# Altium integrated library Linear Technology PMIC-Switching Reg LTC1174-LTC3901.IntLib: 2647 symbols (part 34 of 310)
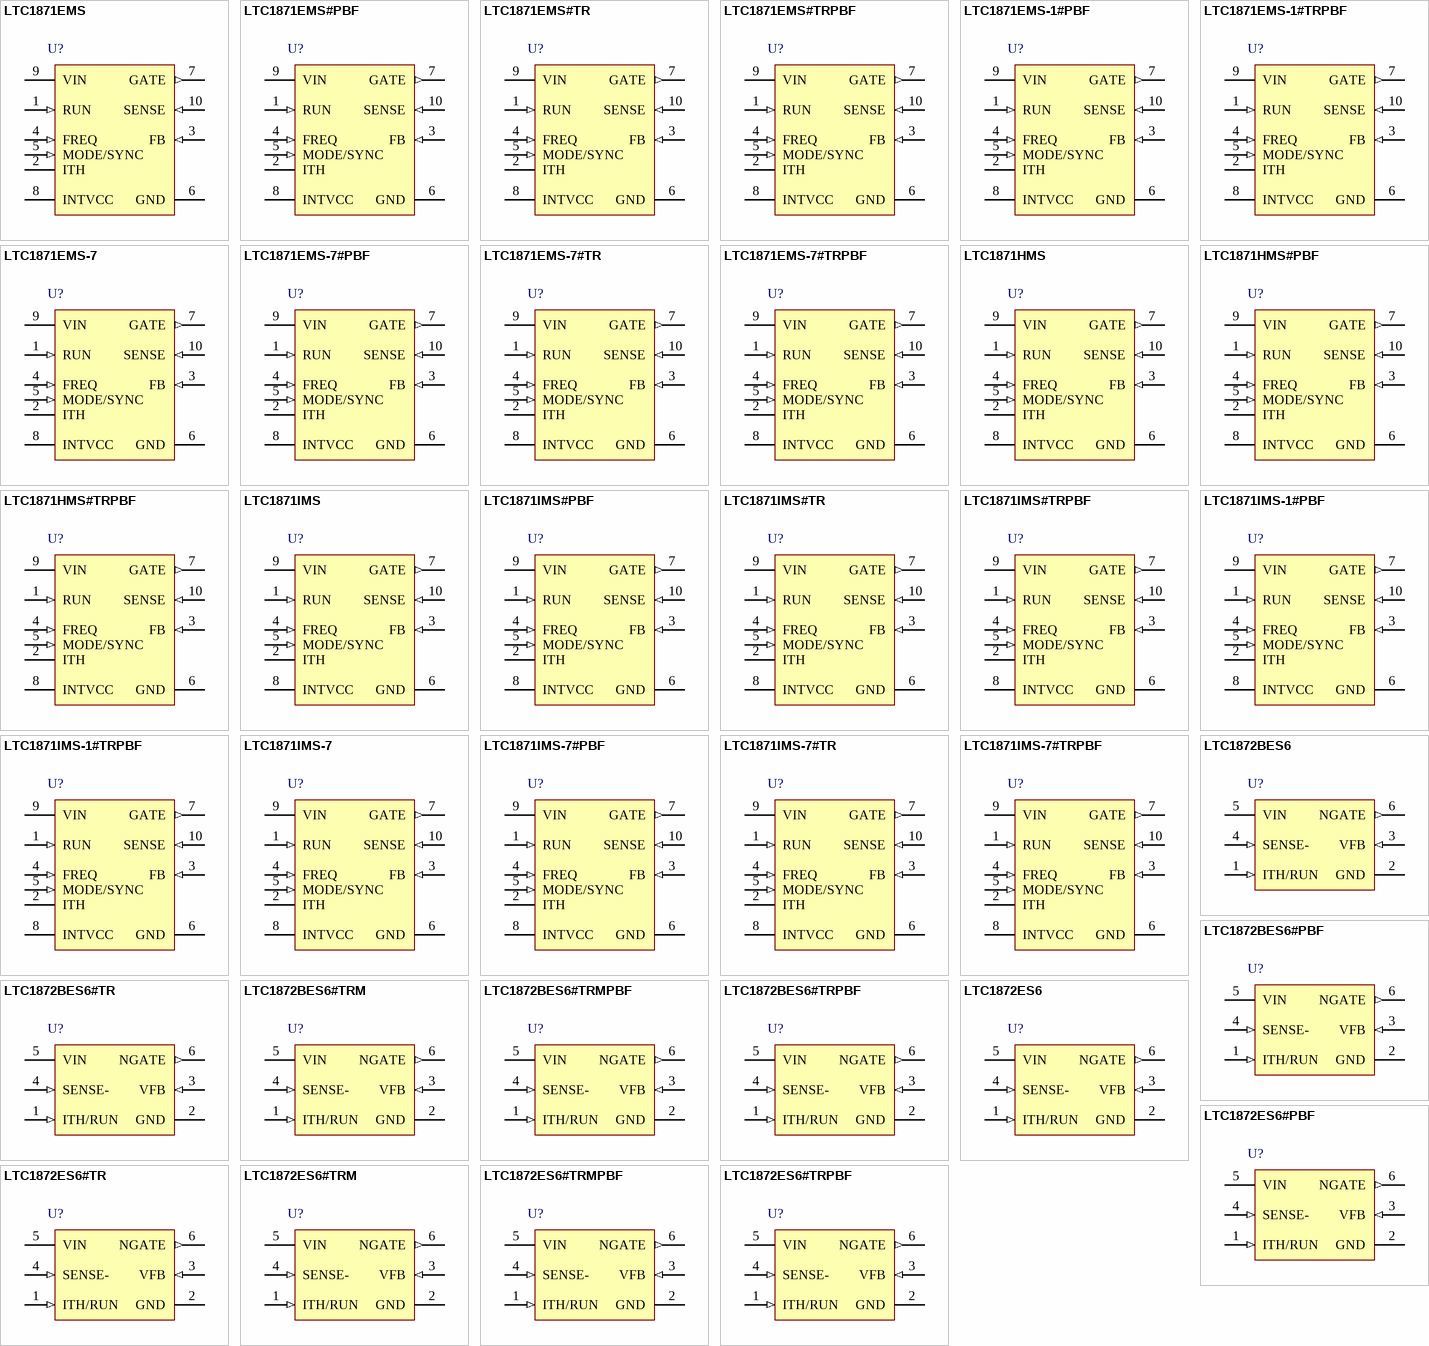
[diagram p135: symbols LTC1871EMS to LTC1872ES6#TRPBF]

## LTC1871HMS
designator U?
Wide Input Range, No Rsense Current Mode Boost, Flyback and SEPIC Controller, 10-pin SOP (MS-10), -40 to 150 degC; Manufacturer: Linear Technology; PartNumber: LTC1871HMS; Number of Outputs: 1; PackageReference: MS-10; PackageDescription: 10-Pin Plastic MSOP, Body 3 x 3 mm, Pitch 0.5 mm; RoHS: FALSE
footprint LT-MS-10_N (SOP, 10-Leads, Body 3.1x3.1mm, Pitch 0.5mm, IPC Medium Density)
footprint LT-MS-10_L (SOP, 10-Leads, Body 3.1x3.1mm, Pitch 0.5mm, IPC High Density)
footprint LT-MS-10_M (SOP, 10-Leads, Body 3.1x3.1mm, Pitch 0.5mm, IPC Low Density)
pins: 1 RUN (in) "The RUN pin provides the user with an accurate means for sensing the input voltage and programming the start-up threshold for the converter. The falling RUN pin threshold is nominally 1.248V and the comparator has 100mV of (See Datasheet)", 2 ITH "Error Amplifier Compensation Pin. The current comparator input threshold increases with this control voltage. Nominal voltage range for this pin is 0V to 1.40V.", 3 FB (in) "Receives the feedback voltage from the external resistor divider across the output. Nominal voltage for this pin in regulation is 1.230V.", 4 FREQ (in) "A resistor from the FREQ pin to ground programs the operating frequency of the chip. The nominal voltage at the FREQ pin is 0.6V.", 5 MODE/SYNC (in) "This input controls the operating mode of the converter and allows for synchronizing the operating frequency to an external clock. If the MODE/ SYNC pin is connected to ground, Burst Mode operation is enabled. If the (See Datasheet)", 6 GND (power) "Ground Pin.", 7 GATE (out) "Gate Driver Output.", 8 INTVCC (power) "The Internal Regulator Output. The gate driver and control circuits are powered from this voltage. Decouple this pin locally to the IC ground with a minimum of 4.7uF low ESR tantalum or ceramic capacitor.", 9 VIN (power) "Main Supply Pin. Must be closely decoupled to ground.", 10 SENSE (in) "The Current Sense Input for the Control Loop. Connect this pin to a resistor in the source of the power MOSFET. Alternatively, the SENSE pin may be connected to the drain of the power MOSFET, in applications where the (See Datasheet)"

## LTC1871HMS#PBF
designator U?
Wide Input Range, No Rsense Current Mode Boost, Flyback and SEPIC Controller, 10-pin SOP (MS-10), -40 to 150 degC, Pb-Free; Manufacturer: Linear Technology; PartNumber: LTC1871HMS#PBF; Number of Outputs: 1; PackageReference: MS-10; PackageDescription: 10-Pin Plastic MSOP, Body 3 x 3 mm, Pitch 0.5 mm; Supplier 1: Digi-Key; Supplier Part Number 1: LTC1871HMS#PBF-ND; RoHS: TRUE
footprint LT-MS-10_N (SOP, 10-Leads, Body 3.1x3.1mm, Pitch 0.5mm, IPC Medium Density)
footprint LT-MS-10_L (SOP, 10-Leads, Body 3.1x3.1mm, Pitch 0.5mm, IPC High Density)
footprint LT-MS-10_M (SOP, 10-Leads, Body 3.1x3.1mm, Pitch 0.5mm, IPC Low Density)
pins: 1 RUN (in) "The RUN pin provides the user with an accurate means for sensing the input voltage and programming the start-up threshold for the converter. The falling RUN pin threshold is nominally 1.248V and the comparator has 100mV of (See Datasheet)", 2 ITH "Error Amplifier Compensation Pin. The current comparator input threshold increases with this control voltage. Nominal voltage range for this pin is 0V to 1.40V.", 3 FB (in) "Receives the feedback voltage from the external resistor divider across the output. Nominal voltage for this pin in regulation is 1.230V.", 4 FREQ (in) "A resistor from the FREQ pin to ground programs the operating frequency of the chip. The nominal voltage at the FREQ pin is 0.6V.", 5 MODE/SYNC (in) "This input controls the operating mode of the converter and allows for synchronizing the operating frequency to an external clock. If the MODE/ SYNC pin is connected to ground, Burst Mode operation is enabled. If the (See Datasheet)", 6 GND (power) "Ground Pin.", 7 GATE (out) "Gate Driver Output.", 8 INTVCC (power) "The Internal Regulator Output. The gate driver and control circuits are powered from this voltage. Decouple this pin locally to the IC ground with a minimum of 4.7uF low ESR tantalum or ceramic capacitor.", 9 VIN (power) "Main Supply Pin. Must be closely decoupled to ground.", 10 SENSE (in) "The Current Sense Input for the Control Loop. Connect this pin to a resistor in the source of the power MOSFET. Alternatively, the SENSE pin may be connected to the drain of the power MOSFET, in applications where the (See Datasheet)"

## LTC1871HMS#TRPBF
designator U?
Wide Input Range, No Rsense Current Mode Boost, Flyback and SEPIC Controller, 10-pin SOP (MS-10), -40 to 150 degC, Pb-Free, Tape and Reel; Manufacturer: Linear Technology; PartNumber: LTC1871HMS#TRPBF; Number of Outputs: 1; PackageReference: MS-10; PackageDescription: 10-Pin Plastic MSOP, Body 3 x 3 mm, Pitch 0.5 mm; Supplier 1: Digi-Key; Supplier Part Number 1: LTC1871HMS#TRPBF-ND; RoHS: TRUE
footprint LT-MS-10_N (SOP, 10-Leads, Body 3.1x3.1mm, Pitch 0.5mm, IPC Medium Density)
footprint LT-MS-10_L (SOP, 10-Leads, Body 3.1x3.1mm, Pitch 0.5mm, IPC High Density)
footprint LT-MS-10_M (SOP, 10-Leads, Body 3.1x3.1mm, Pitch 0.5mm, IPC Low Density)
pins: 1 RUN (in) "The RUN pin provides the user with an accurate means for sensing the input voltage and programming the start-up threshold for the converter. The falling RUN pin threshold is nominally 1.248V and the comparator has 100mV of (See Datasheet)", 2 ITH "Error Amplifier Compensation Pin. The current comparator input threshold increases with this control voltage. Nominal voltage range for this pin is 0V to 1.40V.", 3 FB (in) "Receives the feedback voltage from the external resistor divider across the output. Nominal voltage for this pin in regulation is 1.230V.", 4 FREQ (in) "A resistor from the FREQ pin to ground programs the operating frequency of the chip. The nominal voltage at the FREQ pin is 0.6V.", 5 MODE/SYNC (in) "This input controls the operating mode of the converter and allows for synchronizing the operating frequency to an external clock. If the MODE/ SYNC pin is connected to ground, Burst Mode operation is enabled. If the (See Datasheet)", 6 GND (power) "Ground Pin.", 7 GATE (out) "Gate Driver Output.", 8 INTVCC (power) "The Internal Regulator Output. The gate driver and control circuits are powered from this voltage. Decouple this pin locally to the IC ground with a minimum of 4.7uF low ESR tantalum or ceramic capacitor.", 9 VIN (power) "Main Supply Pin. Must be closely decoupled to ground.", 10 SENSE (in) "The Current Sense Input for the Control Loop. Connect this pin to a resistor in the source of the power MOSFET. Alternatively, the SENSE pin may be connected to the drain of the power MOSFET, in applications where the (See Datasheet)"

## LTC1871IMS
designator U?
Wide Input Range, No Rsense Current Mode Boost, Flyback and SEPIC Controller, 10-pin SOP (MS-10), -40 to 125 degC; Manufacturer: Linear Technology; PartNumber: LTC1871IMS; Number of Outputs: 1; PackageReference: MS-10; PackageDescription: 10-Pin Plastic MSOP, Body 3 x 3 mm, Pitch 0.5 mm; Supplier 1: Digi-Key; Supplier Part Number 1: LTC1871IMS-ND; RoHS: FALSE
footprint LT-MS-10_N (SOP, 10-Leads, Body 3.1x3.1mm, Pitch 0.5mm, IPC Medium Density)
footprint LT-MS-10_L (SOP, 10-Leads, Body 3.1x3.1mm, Pitch 0.5mm, IPC High Density)
footprint LT-MS-10_M (SOP, 10-Leads, Body 3.1x3.1mm, Pitch 0.5mm, IPC Low Density)
pins: 1 RUN (in) "The RUN pin provides the user with an accurate means for sensing the input voltage and programming the start-up threshold for the converter. The falling RUN pin threshold is nominally 1.248V and the comparator has 100mV of (See Datasheet)", 2 ITH "Error Amplifier Compensation Pin. The current comparator input threshold increases with this control voltage. Nominal voltage range for this pin is 0V to 1.40V.", 3 FB (in) "Receives the feedback voltage from the external resistor divider across the output. Nominal voltage for this pin in regulation is 1.230V.", 4 FREQ (in) "A resistor from the FREQ pin to ground programs the operating frequency of the chip. The nominal voltage at the FREQ pin is 0.6V.", 5 MODE/SYNC (in) "This input controls the operating mode of the converter and allows for synchronizing the operating frequency to an external clock. If the MODE/ SYNC pin is connected to ground, Burst Mode operation is enabled. If the (See Datasheet)", 6 GND (power) "Ground Pin.", 7 GATE (out) "Gate Driver Output.", 8 INTVCC (power) "The Internal Regulator Output. The gate driver and control circuits are powered from this voltage. Decouple this pin locally to the IC ground with a minimum of 4.7uF low ESR tantalum or ceramic capacitor.", 9 VIN (power) "Main Supply Pin. Must be closely decoupled to ground.", 10 SENSE (in) "The Current Sense Input for the Control Loop. Connect this pin to a resistor in the source of the power MOSFET. Alternatively, the SENSE pin may be connected to the drain of the power MOSFET, in applications where the (See Datasheet)"

## LTC1871IMS#PBF
designator U?
Wide Input Range, No Rsense Current Mode Boost, Flyback and SEPIC Controller, 10-pin SOP (MS-10), -40 to 125 degC, Pb-Free; Manufacturer: Linear Technology; PartNumber: LTC1871IMS#PBF; Number of Outputs: 1; PackageReference: MS-10; PackageDescription: 10-Pin Plastic MSOP, Body 3 x 3 mm, Pitch 0.5 mm; Supplier 1: Digi-Key; Supplier Part Number 1: LTC1871IMS#PBF-ND; RoHS: TRUE
footprint LT-MS-10_N (SOP, 10-Leads, Body 3.1x3.1mm, Pitch 0.5mm, IPC Medium Density)
footprint LT-MS-10_L (SOP, 10-Leads, Body 3.1x3.1mm, Pitch 0.5mm, IPC High Density)
footprint LT-MS-10_M (SOP, 10-Leads, Body 3.1x3.1mm, Pitch 0.5mm, IPC Low Density)
pins: 1 RUN (in) "The RUN pin provides the user with an accurate means for sensing the input voltage and programming the start-up threshold for the converter. The falling RUN pin threshold is nominally 1.248V and the comparator has 100mV of (See Datasheet)", 2 ITH "Error Amplifier Compensation Pin. The current comparator input threshold increases with this control voltage. Nominal voltage range for this pin is 0V to 1.40V.", 3 FB (in) "Receives the feedback voltage from the external resistor divider across the output. Nominal voltage for this pin in regulation is 1.230V.", 4 FREQ (in) "A resistor from the FREQ pin to ground programs the operating frequency of the chip. The nominal voltage at the FREQ pin is 0.6V.", 5 MODE/SYNC (in) "This input controls the operating mode of the converter and allows for synchronizing the operating frequency to an external clock. If the MODE/ SYNC pin is connected to ground, Burst Mode operation is enabled. If the (See Datasheet)", 6 GND (power) "Ground Pin.", 7 GATE (out) "Gate Driver Output.", 8 INTVCC (power) "The Internal Regulator Output. The gate driver and control circuits are powered from this voltage. Decouple this pin locally to the IC ground with a minimum of 4.7uF low ESR tantalum or ceramic capacitor.", 9 VIN (power) "Main Supply Pin. Must be closely decoupled to ground.", 10 SENSE (in) "The Current Sense Input for the Control Loop. Connect this pin to a resistor in the source of the power MOSFET. Alternatively, the SENSE pin may be connected to the drain of the power MOSFET, in applications where the (See Datasheet)"

## LTC1871IMS#TR
designator U?
Wide Input Range, No Rsense Current Mode Boost, Flyback and SEPIC Controller, 10-pin SOP (MS-10), -40 to 125 degC, Tape and Reel; Manufacturer: Linear Technology; PartNumber: LTC1871IMS#TR; Number of Outputs: 1; PackageReference: MS-10; PackageDescription: 10-Pin Plastic MSOP, Body 3 x 3 mm, Pitch 0.5 mm; Supplier 1: Digi-Key; Supplier Part Number 1: LTC1871IMS#TR-ND; RoHS: FALSE
footprint LT-MS-10_N (SOP, 10-Leads, Body 3.1x3.1mm, Pitch 0.5mm, IPC Medium Density)
footprint LT-MS-10_L (SOP, 10-Leads, Body 3.1x3.1mm, Pitch 0.5mm, IPC High Density)
footprint LT-MS-10_M (SOP, 10-Leads, Body 3.1x3.1mm, Pitch 0.5mm, IPC Low Density)
pins: 1 RUN (in) "The RUN pin provides the user with an accurate means for sensing the input voltage and programming the start-up threshold for the converter. The falling RUN pin threshold is nominally 1.248V and the comparator has 100mV of (See Datasheet)", 2 ITH "Error Amplifier Compensation Pin. The current comparator input threshold increases with this control voltage. Nominal voltage range for this pin is 0V to 1.40V.", 3 FB (in) "Receives the feedback voltage from the external resistor divider across the output. Nominal voltage for this pin in regulation is 1.230V.", 4 FREQ (in) "A resistor from the FREQ pin to ground programs the operating frequency of the chip. The nominal voltage at the FREQ pin is 0.6V.", 5 MODE/SYNC (in) "This input controls the operating mode of the converter and allows for synchronizing the operating frequency to an external clock. If the MODE/ SYNC pin is connected to ground, Burst Mode operation is enabled. If the (See Datasheet)", 6 GND (power) "Ground Pin.", 7 GATE (out) "Gate Driver Output.", 8 INTVCC (power) "The Internal Regulator Output. The gate driver and control circuits are powered from this voltage. Decouple this pin locally to the IC ground with a minimum of 4.7uF low ESR tantalum or ceramic capacitor.", 9 VIN (power) "Main Supply Pin. Must be closely decoupled to ground.", 10 SENSE (in) "The Current Sense Input for the Control Loop. Connect this pin to a resistor in the source of the power MOSFET. Alternatively, the SENSE pin may be connected to the drain of the power MOSFET, in applications where the (See Datasheet)"

## LTC1871IMS#TRPBF
designator U?
Wide Input Range, No Rsense Current Mode Boost, Flyback and SEPIC Controller, 10-pin SOP (MS-10), -40 to 125 degC, Pb-Free, Tape and Reel; Manufacturer: Linear Technology; PartNumber: LTC1871IMS#TRPBF; Number of Outputs: 1; PackageReference: MS-10; PackageDescription: 10-Pin Plastic MSOP, Body 3 x 3 mm, Pitch 0.5 mm; Supplier 1: Digi-Key; Supplier Part Number 1: LTC1871IMS#TRPBF-ND; RoHS: TRUE
footprint LT-MS-10_N (SOP, 10-Leads, Body 3.1x3.1mm, Pitch 0.5mm, IPC Medium Density)
footprint LT-MS-10_L (SOP, 10-Leads, Body 3.1x3.1mm, Pitch 0.5mm, IPC High Density)
footprint LT-MS-10_M (SOP, 10-Leads, Body 3.1x3.1mm, Pitch 0.5mm, IPC Low Density)
pins: 1 RUN (in) "The RUN pin provides the user with an accurate means for sensing the input voltage and programming the start-up threshold for the converter. The falling RUN pin threshold is nominally 1.248V and the comparator has 100mV of (See Datasheet)", 2 ITH "Error Amplifier Compensation Pin. The current comparator input threshold increases with this control voltage. Nominal voltage range for this pin is 0V to 1.40V.", 3 FB (in) "Receives the feedback voltage from the external resistor divider across the output. Nominal voltage for this pin in regulation is 1.230V.", 4 FREQ (in) "A resistor from the FREQ pin to ground programs the operating frequency of the chip. The nominal voltage at the FREQ pin is 0.6V.", 5 MODE/SYNC (in) "This input controls the operating mode of the converter and allows for synchronizing the operating frequency to an external clock. If the MODE/ SYNC pin is connected to ground, Burst Mode operation is enabled. If the (See Datasheet)", 6 GND (power) "Ground Pin.", 7 GATE (out) "Gate Driver Output.", 8 INTVCC (power) "The Internal Regulator Output. The gate driver and control circuits are powered from this voltage. Decouple this pin locally to the IC ground with a minimum of 4.7uF low ESR tantalum or ceramic capacitor.", 9 VIN (power) "Main Supply Pin. Must be closely decoupled to ground.", 10 SENSE (in) "The Current Sense Input for the Control Loop. Connect this pin to a resistor in the source of the power MOSFET. Alternatively, the SENSE pin may be connected to the drain of the power MOSFET, in applications where the (See Datasheet)"

## LTC1871IMS-1#PBF
designator U?
Wide Input Range, No Rsense Current Mode Boost, Flyback and SEPIC Controller, Lower Pulse Skip Threshold, 10-pin SOP (MS-10), -40 to 125 degC, Pb-Free; Manufacturer: Linear Technology; PartNumber: LTC1871IMS-1#PBF; Number of Outputs: 1; PackageReference: MS-10; PackageDescription: 10-Pin Plastic MSOP, Body 3 x 3 mm, Pitch 0.5 mm; Supplier 1: Digi-Key; Supplier Part Number 1: LTC1871IMS-1#PBF-ND; RoHS: TRUE
footprint LT-MS-10_N (SOP, 10-Leads, Body 3.1x3.1mm, Pitch 0.5mm, IPC Medium Density)
footprint LT-MS-10_L (SOP, 10-Leads, Body 3.1x3.1mm, Pitch 0.5mm, IPC High Density)
footprint LT-MS-10_M (SOP, 10-Leads, Body 3.1x3.1mm, Pitch 0.5mm, IPC Low Density)
pins: 1 RUN (in) "The RUN pin provides the user with an accurate means for sensing the input voltage and programming the start-up threshold for the converter. The falling RUN pin threshold is nominally 1.248V and the comparator has 100mV of (See Datasheet)", 2 ITH "Error Amplifier Compensation Pin. The current comparator input threshold increases with this control voltage. Nominal voltage range for this pin is 0V to 1.40V.", 3 FB (in) "Receives the feedback voltage from the external resistor divider across the output. Nominal voltage for this pin in regulation is 1.230V.", 4 FREQ (in) "A resistor from the FREQ pin to ground programs the operating frequency of the chip. The nominal voltage at the FREQ pin is 0.6V.", 5 MODE/SYNC (in) "This input controls the operating mode of the converter and allows for synchronizing the operating frequency to an external clock. If the MODE/ SYNC pin is connected to ground, Burst Mode operation is enabled. If the (See Datasheet)", 6 GND (power) "Ground Pin.", 7 GATE (out) "Gate Driver Output.", 8 INTVCC (power) "The Internal Regulator Output. The gate driver and control circuits are powered from this voltage. Decouple this pin locally to the IC ground with a minimum of 4.7uF low ESR tantalum or ceramic capacitor.", 9 VIN (power) "Main Supply Pin. Must be closely decoupled to ground.", 10 SENSE (in) "The Current Sense Input for the Control Loop. Connect this pin to a resistor in the source of the power MOSFET. Alternatively, the SENSE pin may be connected to the drain of the power MOSFET, in applications where the (See Datasheet)"

## LTC1871IMS-1#TRPBF
designator U?
Wide Input Range, No Rsense Current Mode Boost, Flyback and SEPIC Controller, Lower Pulse Skip Threshold, 10-pin SOP (MS-10), -40 to 125 degC, Pb-Free, Tape and Reel; Manufacturer: Linear Technology; PartNumber: LTC1871IMS-1#TRPBF; Number of Outputs: 1; PackageReference: MS-10; PackageDescription: 10-Pin Plastic MSOP, Body 3 x 3 mm, Pitch 0.5 mm; Supplier 1: Digi-Key; Supplier Part Number 1: LTC1871IMS-1#TRPBF-ND; RoHS: TRUE
footprint LT-MS-10_N (SOP, 10-Leads, Body 3.1x3.1mm, Pitch 0.5mm, IPC Medium Density)
footprint LT-MS-10_L (SOP, 10-Leads, Body 3.1x3.1mm, Pitch 0.5mm, IPC High Density)
footprint LT-MS-10_M (SOP, 10-Leads, Body 3.1x3.1mm, Pitch 0.5mm, IPC Low Density)
pins: 1 RUN (in) "The RUN pin provides the user with an accurate means for sensing the input voltage and programming the start-up threshold for the converter. The falling RUN pin threshold is nominally 1.248V and the comparator has 100mV of (See Datasheet)", 2 ITH "Error Amplifier Compensation Pin. The current comparator input threshold increases with this control voltage. Nominal voltage range for this pin is 0V to 1.40V.", 3 FB (in) "Receives the feedback voltage from the external resistor divider across the output. Nominal voltage for this pin in regulation is 1.230V.", 4 FREQ (in) "A resistor from the FREQ pin to ground programs the operating frequency of the chip. The nominal voltage at the FREQ pin is 0.6V.", 5 MODE/SYNC (in) "This input controls the operating mode of the converter and allows for synchronizing the operating frequency to an external clock. If the MODE/ SYNC pin is connected to ground, Burst Mode operation is enabled. If the (See Datasheet)", 6 GND (power) "Ground Pin.", 7 GATE (out) "Gate Driver Output.", 8 INTVCC (power) "The Internal Regulator Output. The gate driver and control circuits are powered from this voltage. Decouple this pin locally to the IC ground with a minimum of 4.7uF low ESR tantalum or ceramic capacitor.", 9 VIN (power) "Main Supply Pin. Must be closely decoupled to ground.", 10 SENSE (in) "The Current Sense Input for the Control Loop. Connect this pin to a resistor in the source of the power MOSFET. Alternatively, the SENSE pin may be connected to the drain of the power MOSFET, in applications where the (See Datasheet)"

## LTC1871IMS-7
designator U?
Drives 6 V-Gate N-Channel MOSFETs for High Voltage Telecom and Automotive Apps, Frequency Set with Resistor, 10-pin SOP (MS-10), -40 to 125 degC; Manufacturer: Linear Technology; PartNumber: LTC1871IMS-7; Number of Outputs: 1; PackageReference: MS-10; PackageDescription: 10-Pin Plastic MSOP, Body 3 x 3 mm, Pitch 0.5 mm; Supplier 1: Newark; Supplier Part Number 1: 56M4264; RoHS: FALSE
footprint LT-MS-10_N (SOP, 10-Leads, Body 3.1x3.1mm, Pitch 0.5mm, IPC Medium Density)
footprint LT-MS-10_L (SOP, 10-Leads, Body 3.1x3.1mm, Pitch 0.5mm, IPC High Density)
footprint LT-MS-10_M (SOP, 10-Leads, Body 3.1x3.1mm, Pitch 0.5mm, IPC Low Density)
pins: 1 RUN (in) "The RUN pin provides the user with an accurate means for sensing the input voltage and programming the start-up threshold for the converter. The falling RUN pin threshold is nominally 1.248V and the comparator has 100mV of (See Datasheet)", 2 ITH "Error Amplifier Compensation Pin. The current comparator input threshold increases with this control voltage. Nominal voltage range for this pin is 0V to 1.40V.", 3 FB (in) "Receives the feedback voltage from the external resistor divider across the output. Nominal voltage for this pin in regulation is 1.230V.", 4 FREQ (in) "A resistor from the FREQ pin to ground programs the operating frequency of the chip. The nominal voltage at the FREQ pin is 0.6V.", 5 MODE/SYNC (in) "This input controls the operating mode of the converter and allows for synchronizing the operating frequency to an external clock. If the MODE/ SYNC pin is connected to ground, Burst Mode operation is enabled. If the (See Datasheet)", 6 GND (power) "Ground Pin.", 7 GATE (out) "Gate Driver Output.", 8 INTVCC (power) "The Internal Regulator Output. The gate driver and control circuits are powered from this voltage. Decouple this pin locally to the IC ground with a minimum of 4.7uF low ESR tantalum or ceramic capacitor.", 9 VIN (power) "Main Supply Pin. Must be closely decoupled to ground.", 10 SENSE (in) "The Current Sense Input for the Control Loop. Connect this pin to a resistor in the source of the power MOSFET. Alternatively, the SENSE pin may be connected to the drain of the power MOSFET, in applications where the (See Datasheet)"

## LTC1871IMS-7#PBF
designator U?
Drives 6 V-Gate N-Channel MOSFETs for High Voltage Telecom and Automotive Apps, Frequency Set with Resistor, 10-pin SOP (MS-10), -40 to 125 degC, Pb-Free; Manufacturer: Linear Technology; PartNumber: LTC1871IMS-7#PBF; Number of Outputs: 1; PackageReference: MS-10; PackageDescription: 10-Pin Plastic MSOP, Body 3 x 3 mm, Pitch 0.5 mm; Supplier 1: Digi-Key; Supplier Part Number 1: LTC1871IMS-7#PBF-ND; RoHS: TRUE
footprint LT-MS-10_N (SOP, 10-Leads, Body 3.1x3.1mm, Pitch 0.5mm, IPC Medium Density)
footprint LT-MS-10_L (SOP, 10-Leads, Body 3.1x3.1mm, Pitch 0.5mm, IPC High Density)
footprint LT-MS-10_M (SOP, 10-Leads, Body 3.1x3.1mm, Pitch 0.5mm, IPC Low Density)
pins: 1 RUN (in) "The RUN pin provides the user with an accurate means for sensing the input voltage and programming the start-up threshold for the converter. The falling RUN pin threshold is nominally 1.248V and the comparator has 100mV of (See Datasheet)", 2 ITH "Error Amplifier Compensation Pin. The current comparator input threshold increases with this control voltage. Nominal voltage range for this pin is 0V to 1.40V.", 3 FB (in) "Receives the feedback voltage from the external resistor divider across the output. Nominal voltage for this pin in regulation is 1.230V.", 4 FREQ (in) "A resistor from the FREQ pin to ground programs the operating frequency of the chip. The nominal voltage at the FREQ pin is 0.6V.", 5 MODE/SYNC (in) "This input controls the operating mode of the converter and allows for synchronizing the operating frequency to an external clock. If the MODE/ SYNC pin is connected to ground, Burst Mode operation is enabled. If the (See Datasheet)", 6 GND (power) "Ground Pin.", 7 GATE (out) "Gate Driver Output.", 8 INTVCC (power) "The Internal Regulator Output. The gate driver and control circuits are powered from this voltage. Decouple this pin locally to the IC ground with a minimum of 4.7uF low ESR tantalum or ceramic capacitor.", 9 VIN (power) "Main Supply Pin. Must be closely decoupled to ground.", 10 SENSE (in) "The Current Sense Input for the Control Loop. Connect this pin to a resistor in the source of the power MOSFET. Alternatively, the SENSE pin may be connected to the drain of the power MOSFET, in applications where the (See Datasheet)"

## LTC1871IMS-7#TR
designator U?
Drives 6 V-Gate N-Channel MOSFETs for High Voltage Telecom and Automotive Apps, Frequency Set with Resistor, 10-pin SOP (MS-10), -40 to 125 degC, Tape and Reel; Manufacturer: Linear Technology; PartNumber: LTC1871IMS-7#TR; Number of Outputs: 1; PackageReference: MS-10; PackageDescription: 10-Pin Plastic MSOP, Body 3 x 3 mm, Pitch 0.5 mm; RoHS: FALSE
footprint LT-MS-10_N (SOP, 10-Leads, Body 3.1x3.1mm, Pitch 0.5mm, IPC Medium Density)
footprint LT-MS-10_L (SOP, 10-Leads, Body 3.1x3.1mm, Pitch 0.5mm, IPC High Density)
footprint LT-MS-10_M (SOP, 10-Leads, Body 3.1x3.1mm, Pitch 0.5mm, IPC Low Density)
pins: 1 RUN (in) "The RUN pin provides the user with an accurate means for sensing the input voltage and programming the start-up threshold for the converter. The falling RUN pin threshold is nominally 1.248V and the comparator has 100mV of (See Datasheet)", 2 ITH "Error Amplifier Compensation Pin. The current comparator input threshold increases with this control voltage. Nominal voltage range for this pin is 0V to 1.40V.", 3 FB (in) "Receives the feedback voltage from the external resistor divider across the output. Nominal voltage for this pin in regulation is 1.230V.", 4 FREQ (in) "A resistor from the FREQ pin to ground programs the operating frequency of the chip. The nominal voltage at the FREQ pin is 0.6V.", 5 MODE/SYNC (in) "This input controls the operating mode of the converter and allows for synchronizing the operating frequency to an external clock. If the MODE/ SYNC pin is connected to ground, Burst Mode operation is enabled. If the (See Datasheet)", 6 GND (power) "Ground Pin.", 7 GATE (out) "Gate Driver Output.", 8 INTVCC (power) "The Internal Regulator Output. The gate driver and control circuits are powered from this voltage. Decouple this pin locally to the IC ground with a minimum of 4.7uF low ESR tantalum or ceramic capacitor.", 9 VIN (power) "Main Supply Pin. Must be closely decoupled to ground.", 10 SENSE (in) "The Current Sense Input for the Control Loop. Connect this pin to a resistor in the source of the power MOSFET. Alternatively, the SENSE pin may be connected to the drain of the power MOSFET, in applications where the (See Datasheet)"

## LTC1871IMS-7#TRPBF
designator U?
Drives 6 V-Gate N-Channel MOSFETs for High Voltage Telecom and Automotive Apps, Frequency Set with Resistor, 10-pin SOP (MS-10), -40 to 125 degC, Pb-Free, Tape and Reel; Manufacturer: Linear Technology; PartNumber: LTC1871IMS-7#TRPBF; Number of Outputs: 1; PackageReference: MS-10; PackageDescription: 10-Pin Plastic MSOP, Body 3 x 3 mm, Pitch 0.5 mm; Supplier 1: Digi-Key; Supplier Part Number 1: LTC1871IMS-7#TRPBF-ND; RoHS: TRUE
footprint LT-MS-10_N (SOP, 10-Leads, Body 3.1x3.1mm, Pitch 0.5mm, IPC Medium Density)
footprint LT-MS-10_L (SOP, 10-Leads, Body 3.1x3.1mm, Pitch 0.5mm, IPC High Density)
footprint LT-MS-10_M (SOP, 10-Leads, Body 3.1x3.1mm, Pitch 0.5mm, IPC Low Density)
pins: 1 RUN (in) "The RUN pin provides the user with an accurate means for sensing the input voltage and programming the start-up threshold for the converter. The falling RUN pin threshold is nominally 1.248V and the comparator has 100mV of (See Datasheet)", 2 ITH "Error Amplifier Compensation Pin. The current comparator input threshold increases with this control voltage. Nominal voltage range for this pin is 0V to 1.40V.", 3 FB (in) "Receives the feedback voltage from the external resistor divider across the output. Nominal voltage for this pin in regulation is 1.230V.", 4 FREQ (in) "A resistor from the FREQ pin to ground programs the operating frequency of the chip. The nominal voltage at the FREQ pin is 0.6V.", 5 MODE/SYNC (in) "This input controls the operating mode of the converter and allows for synchronizing the operating frequency to an external clock. If the MODE/ SYNC pin is connected to ground, Burst Mode operation is enabled. If the (See Datasheet)", 6 GND (power) "Ground Pin.", 7 GATE (out) "Gate Driver Output.", 8 INTVCC (power) "The Internal Regulator Output. The gate driver and control circuits are powered from this voltage. Decouple this pin locally to the IC ground with a minimum of 4.7uF low ESR tantalum or ceramic capacitor.", 9 VIN (power) "Main Supply Pin. Must be closely decoupled to ground.", 10 SENSE (in) "The Current Sense Input for the Control Loop. Connect this pin to a resistor in the source of the power MOSFET. Alternatively, the SENSE pin may be connected to the drain of the power MOSFET, in applications where the (See Datasheet)"

## LTC1872BES6
designator U?
Constant Frequency Current Mode Step-Up DC/DC Controller, 6-pin SOT23 (S6-6), -40 to 85 degC; Manufacturer: Linear Technology; PartNumber: LTC1872BES6; Number of Outputs: 1; PackageReference: S6-6; PackageDescription: 6-Pin Plastic TSOT-23, Body 2.9 x 1.63 mm, Pitch 0.95 mm; RoHS: FALSE; Code_JEDEC: MO-193
footprint LT-S6-6-TSOT-23_N (SOT23, 6-Leads, Body 2.9x1.75mm, Pitch 0.95mm, IPC Medium Density)
footprint LT-S6-6-TSOT-23_L (SOT23, 6-Leads, Body 2.9x1.75mm, Pitch 0.95mm, IPC High Density)
footprint LT-S6-6-TSOT-23_M (SOT23, 6-Leads, Body 2.9x1.75mm, Pitch 0.95mm, IPC Low Density)
pins: 1 ITH/RUN (in) "This pin performs two functions. It serves as the error amplifier compensation point as well as the run control input. Nominal voltage range for this pin is 0.7V to 1.9V. Forcing this pin below 0.35V causes the device to be (See Datasheet)", 2 GND (power) "Ground Pin.", 3 VFB (in) "Receives the feedback voltage from an external resistive divider across the output.", 4 SENSE- (in) "The Negative Input to the Current Comparator.", 5 VIN (power) "Supply Pin. Must be closely decoupled to GND Pin 2.", 6 NGATE (out) "Gate Drive for the External N-Channel MOSFET. This pin swings from 0V to VIN."

## LTC1872BES6#PBF
designator U?
Constant Frequency Current Mode Step-Up DC/DC Controller, 6-pin SOT23 (S6-6), -40 to 85 degC, Pb-Free; Manufacturer: Linear Technology; PartNumber: LTC1872BES6#PBF; Number of Outputs: 1; PackageReference: S6-6; PackageDescription: 6-Pin Plastic TSOT-23, Body 2.9 x 1.63 mm, Pitch 0.95 mm; Supplier 1: Farnell; Supplier Part Number 1: 2308102; RoHS: TRUE; Code_JEDEC: MO-193
footprint LT-S6-6-TSOT-23_N (SOT23, 6-Leads, Body 2.9x1.75mm, Pitch 0.95mm, IPC Medium Density)
footprint LT-S6-6-TSOT-23_L (SOT23, 6-Leads, Body 2.9x1.75mm, Pitch 0.95mm, IPC High Density)
footprint LT-S6-6-TSOT-23_M (SOT23, 6-Leads, Body 2.9x1.75mm, Pitch 0.95mm, IPC Low Density)
pins: 1 ITH/RUN (in) "This pin performs two functions. It serves as the error amplifier compensation point as well as the run control input. Nominal voltage range for this pin is 0.7V to 1.9V. Forcing this pin below 0.35V causes the device to be (See Datasheet)", 2 GND (power) "Ground Pin.", 3 VFB (in) "Receives the feedback voltage from an external resistive divider across the output.", 4 SENSE- (in) "The Negative Input to the Current Comparator.", 5 VIN (power) "Supply Pin. Must be closely decoupled to GND Pin 2.", 6 NGATE (out) "Gate Drive for the External N-Channel MOSFET. This pin swings from 0V to VIN."

## LTC1872BES6#TR
designator U?
Constant Frequency Current Mode Step-Up DC/DC Controller, 6-pin SOT23 (S6-6), -40 to 85 degC, Tape and Reel; Manufacturer: Linear Technology; PartNumber: LTC1872BES6#TR; Number of Outputs: 1; PackageReference: S6-6; PackageDescription: 6-Pin Plastic TSOT-23, Body 2.9 x 1.63 mm, Pitch 0.95 mm; Supplier 1: Digi-Key; Supplier Part Number 1: LTC1872BES6TR-ND; RoHS: FALSE; Code_JEDEC: MO-193
footprint LT-S6-6-TSOT-23_N (SOT23, 6-Leads, Body 2.9x1.75mm, Pitch 0.95mm, IPC Medium Density)
footprint LT-S6-6-TSOT-23_L (SOT23, 6-Leads, Body 2.9x1.75mm, Pitch 0.95mm, IPC High Density)
footprint LT-S6-6-TSOT-23_M (SOT23, 6-Leads, Body 2.9x1.75mm, Pitch 0.95mm, IPC Low Density)
pins: 1 ITH/RUN (in) "This pin performs two functions. It serves as the error amplifier compensation point as well as the run control input. Nominal voltage range for this pin is 0.7V to 1.9V. Forcing this pin below 0.35V causes the device to be (See Datasheet)", 2 GND (power) "Ground Pin.", 3 VFB (in) "Receives the feedback voltage from an external resistive divider across the output.", 4 SENSE- (in) "The Negative Input to the Current Comparator.", 5 VIN (power) "Supply Pin. Must be closely decoupled to GND Pin 2.", 6 NGATE (out) "Gate Drive for the External N-Channel MOSFET. This pin swings from 0V to VIN."

## LTC1872BES6#TRM
designator U?
Constant Frequency Current Mode Step-Up DC/DC Controller, 6-pin SOT23 (S6-6), -40 to 85 degC, Mini Tape and Reel; Manufacturer: Linear Technology; PartNumber: LTC1872BES6#TRM; Number of Outputs: 1; PackageReference: S6-6; PackageDescription: 6-Pin Plastic TSOT-23, Body 2.9 x 1.63 mm, Pitch 0.95 mm; Supplier 1: Digi-Key; Supplier Part Number 1: LTC1872BES6#TRMCT-ND; RoHS: FALSE; Code_JEDEC: MO-193
footprint LT-S6-6-TSOT-23_N (SOT23, 6-Leads, Body 2.9x1.75mm, Pitch 0.95mm, IPC Medium Density)
footprint LT-S6-6-TSOT-23_L (SOT23, 6-Leads, Body 2.9x1.75mm, Pitch 0.95mm, IPC High Density)
footprint LT-S6-6-TSOT-23_M (SOT23, 6-Leads, Body 2.9x1.75mm, Pitch 0.95mm, IPC Low Density)
pins: 1 ITH/RUN (in) "This pin performs two functions. It serves as the error amplifier compensation point as well as the run control input. Nominal voltage range for this pin is 0.7V to 1.9V. Forcing this pin below 0.35V causes the device to be (See Datasheet)", 2 GND (power) "Ground Pin.", 3 VFB (in) "Receives the feedback voltage from an external resistive divider across the output.", 4 SENSE- (in) "The Negative Input to the Current Comparator.", 5 VIN (power) "Supply Pin. Must be closely decoupled to GND Pin 2.", 6 NGATE (out) "Gate Drive for the External N-Channel MOSFET. This pin swings from 0V to VIN."

## LTC1872BES6#TRMPBF
designator U?
Constant Frequency Current Mode Step-Up DC/DC Controller, 6-pin SOT23 (S6-6), -40 to 85 degC, Pb-Free, Mini Tape and Reel; Manufacturer: Linear Technology; PartNumber: LTC1872BES6#TRMPBF; Number of Outputs: 1; PackageReference: S6-6; PackageDescription: 6-Pin Plastic TSOT-23, Body 2.9 x 1.63 mm, Pitch 0.95 mm; Supplier 1: Digi-Key; Supplier Part Number 1: LTC1872BES6#TRMPBFTR-ND; RoHS: TRUE; Code_JEDEC: MO-193
footprint LT-S6-6-TSOT-23_N (SOT23, 6-Leads, Body 2.9x1.75mm, Pitch 0.95mm, IPC Medium Density)
footprint LT-S6-6-TSOT-23_L (SOT23, 6-Leads, Body 2.9x1.75mm, Pitch 0.95mm, IPC High Density)
footprint LT-S6-6-TSOT-23_M (SOT23, 6-Leads, Body 2.9x1.75mm, Pitch 0.95mm, IPC Low Density)
pins: 1 ITH/RUN (in) "This pin performs two functions. It serves as the error amplifier compensation point as well as the run control input. Nominal voltage range for this pin is 0.7V to 1.9V. Forcing this pin below 0.35V causes the device to be (See Datasheet)", 2 GND (power) "Ground Pin.", 3 VFB (in) "Receives the feedback voltage from an external resistive divider across the output.", 4 SENSE- (in) "The Negative Input to the Current Comparator.", 5 VIN (power) "Supply Pin. Must be closely decoupled to GND Pin 2.", 6 NGATE (out) "Gate Drive for the External N-Channel MOSFET. This pin swings from 0V to VIN."

## LTC1872BES6#TRPBF
designator U?
Constant Frequency Current Mode Step-Up DC/DC Controller, 6-pin SOT23 (S6-6), -40 to 85 degC, Pb-Free, Tape and Reel; Manufacturer: Linear Technology; PartNumber: LTC1872BES6#TRPBF; Number of Outputs: 1; PackageReference: S6-6; PackageDescription: 6-Pin Plastic TSOT-23, Body 2.9 x 1.63 mm, Pitch 0.95 mm; Supplier 1: Digi-Key; Supplier Part Number 1: LTC1872BES6#TRPBF-ND; RoHS: TRUE; Code_JEDEC: MO-193
footprint LT-S6-6-TSOT-23_N (SOT23, 6-Leads, Body 2.9x1.75mm, Pitch 0.95mm, IPC Medium Density)
footprint LT-S6-6-TSOT-23_L (SOT23, 6-Leads, Body 2.9x1.75mm, Pitch 0.95mm, IPC High Density)
footprint LT-S6-6-TSOT-23_M (SOT23, 6-Leads, Body 2.9x1.75mm, Pitch 0.95mm, IPC Low Density)
pins: 1 ITH/RUN (in) "This pin performs two functions. It serves as the error amplifier compensation point as well as the run control input. Nominal voltage range for this pin is 0.7V to 1.9V. Forcing this pin below 0.35V causes the device to be (See Datasheet)", 2 GND (power) "Ground Pin.", 3 VFB (in) "Receives the feedback voltage from an external resistive divider across the output.", 4 SENSE- (in) "The Negative Input to the Current Comparator.", 5 VIN (power) "Supply Pin. Must be closely decoupled to GND Pin 2.", 6 NGATE (out) "Gate Drive for the External N-Channel MOSFET. This pin swings from 0V to VIN."

## LTC1872ES6
designator U?
Constant Frequency Current Mode Step-Up DC/DC Controller, 6-pin SOT23 (S6-6), -40 to 85 degC; Manufacturer: Linear Technology; PartNumber: LTC1872ES6; Number of Outputs: 1; PackageReference: S6-6; PackageDescription: 6-Pin Plastic TSOT-23, Body 2.9 x 1.63 mm, Pitch 0.95 mm; RoHS: FALSE; Code_JEDEC: MO-193
footprint LT-S6-6-TSOT-23_N (SOT23, 6-Leads, Body 2.9x1.75mm, Pitch 0.95mm, IPC Medium Density)
footprint LT-S6-6-TSOT-23_L (SOT23, 6-Leads, Body 2.9x1.75mm, Pitch 0.95mm, IPC High Density)
footprint LT-S6-6-TSOT-23_M (SOT23, 6-Leads, Body 2.9x1.75mm, Pitch 0.95mm, IPC Low Density)
pins: 1 ITH/RUN (in) "This pin performs two functions. It serves as the error amplifier compensation point as well as the run control input. Nominal voltage range for this pin is 0.7V to 1.9V. Forcing this pin below 0.35V causes the device to be (See Datasheet)", 2 GND (power) "Ground Pin.", 3 VFB (in) "Receives the feedback voltage from an external resistive divider across the output.", 4 SENSE- (in) "The Negative Input to the Current Comparator.", 5 VIN (power) "Supply Pin. Must be closely decoupled to GND Pin 2.", 6 NGATE (out) "Gate Drive for the External N-Channel MOSFET. This pin swings from 0V to VIN."

## LTC1872ES6#PBF
designator U?
Constant Frequency Current Mode Step-Up DC/DC Controller, 6-pin SOT23 (S6-6), -40 to 85 degC, Pb-Free; Manufacturer: Linear Technology; PartNumber: LTC1872ES6#PBF; Number of Outputs: 1; PackageReference: S6-6; PackageDescription: 6-Pin Plastic TSOT-23, Body 2.9 x 1.63 mm, Pitch 0.95 mm; Supplier 1: Newark; Supplier Part Number 1: 13T1745; RoHS: TRUE; Code_JEDEC: MO-193
footprint LT-S6-6-TSOT-23_N (SOT23, 6-Leads, Body 2.9x1.75mm, Pitch 0.95mm, IPC Medium Density)
footprint LT-S6-6-TSOT-23_L (SOT23, 6-Leads, Body 2.9x1.75mm, Pitch 0.95mm, IPC High Density)
footprint LT-S6-6-TSOT-23_M (SOT23, 6-Leads, Body 2.9x1.75mm, Pitch 0.95mm, IPC Low Density)
pins: 1 ITH/RUN (in) "This pin performs two functions. It serves as the error amplifier compensation point as well as the run control input. Nominal voltage range for this pin is 0.7V to 1.9V. Forcing this pin below 0.35V causes the device to be (See Datasheet)", 2 GND (power) "Ground Pin.", 3 VFB (in) "Receives the feedback voltage from an external resistive divider across the output.", 4 SENSE- (in) "The Negative Input to the Current Comparator.", 5 VIN (power) "Supply Pin. Must be closely decoupled to GND Pin 2.", 6 NGATE (out) "Gate Drive for the External N-Channel MOSFET. This pin swings from 0V to VIN."

## LTC1872ES6#TR
designator U?
Constant Frequency Current Mode Step-Up DC/DC Controller, 6-pin SOT23 (S6-6), -40 to 85 degC, Tape and Reel; Manufacturer: Linear Technology; PartNumber: LTC1872ES6#TR; Number of Outputs: 1; PackageReference: S6-6; PackageDescription: 6-Pin Plastic TSOT-23, Body 2.9 x 1.63 mm, Pitch 0.95 mm; Supplier 1: Digi-Key; Supplier Part Number 1: LTC1872ES6TR-ND; RoHS: FALSE; Code_JEDEC: MO-193
footprint LT-S6-6-TSOT-23_N (SOT23, 6-Leads, Body 2.9x1.75mm, Pitch 0.95mm, IPC Medium Density)
footprint LT-S6-6-TSOT-23_L (SOT23, 6-Leads, Body 2.9x1.75mm, Pitch 0.95mm, IPC High Density)
footprint LT-S6-6-TSOT-23_M (SOT23, 6-Leads, Body 2.9x1.75mm, Pitch 0.95mm, IPC Low Density)
pins: 1 ITH/RUN (in) "This pin performs two functions. It serves as the error amplifier compensation point as well as the run control input. Nominal voltage range for this pin is 0.7V to 1.9V. Forcing this pin below 0.35V causes the device to be (See Datasheet)", 2 GND (power) "Ground Pin.", 3 VFB (in) "Receives the feedback voltage from an external resistive divider across the output.", 4 SENSE- (in) "The Negative Input to the Current Comparator.", 5 VIN (power) "Supply Pin. Must be closely decoupled to GND Pin 2.", 6 NGATE (out) "Gate Drive for the External N-Channel MOSFET. This pin swings from 0V to VIN."

## LTC1872ES6#TRM
designator U?
Constant Frequency Current Mode Step-Up DC/DC Controller, 6-pin SOT23 (S6-6), -40 to 85 degC, Mini Tape and Reel; Manufacturer: Linear Technology; PartNumber: LTC1872ES6#TRM; Number of Outputs: 1; PackageReference: S6-6; PackageDescription: 6-Pin Plastic TSOT-23, Body 2.9 x 1.63 mm, Pitch 0.95 mm; Supplier 1: Digi-Key; Supplier Part Number 1: LTC1872ES6#TRMTR-ND; RoHS: FALSE; Code_JEDEC: MO-193
footprint LT-S6-6-TSOT-23_N (SOT23, 6-Leads, Body 2.9x1.75mm, Pitch 0.95mm, IPC Medium Density)
footprint LT-S6-6-TSOT-23_L (SOT23, 6-Leads, Body 2.9x1.75mm, Pitch 0.95mm, IPC High Density)
footprint LT-S6-6-TSOT-23_M (SOT23, 6-Leads, Body 2.9x1.75mm, Pitch 0.95mm, IPC Low Density)
pins: 1 ITH/RUN (in) "This pin performs two functions. It serves as the error amplifier compensation point as well as the run control input. Nominal voltage range for this pin is 0.7V to 1.9V. Forcing this pin below 0.35V causes the device to be (See Datasheet)", 2 GND (power) "Ground Pin.", 3 VFB (in) "Receives the feedback voltage from an external resistive divider across the output.", 4 SENSE- (in) "The Negative Input to the Current Comparator.", 5 VIN (power) "Supply Pin. Must be closely decoupled to GND Pin 2.", 6 NGATE (out) "Gate Drive for the External N-Channel MOSFET. This pin swings from 0V to VIN."

## LTC1872ES6#TRMPBF
designator U?
Constant Frequency Current Mode Step-Up DC/DC Controller, 6-pin SOT23 (S6-6), -40 to 85 degC, Pb-Free, Mini Tape and Reel; Manufacturer: Linear Technology; PartNumber: LTC1872ES6#TRMPBF; Number of Outputs: 1; PackageReference: S6-6; PackageDescription: 6-Pin Plastic TSOT-23, Body 2.9 x 1.63 mm, Pitch 0.95 mm; Supplier 1: Digi-Key; Supplier Part Number 1: LTC1872ES6#TRMPBFTR-ND; RoHS: TRUE; Code_JEDEC: MO-193
footprint LT-S6-6-TSOT-23_N (SOT23, 6-Leads, Body 2.9x1.75mm, Pitch 0.95mm, IPC Medium Density)
footprint LT-S6-6-TSOT-23_L (SOT23, 6-Leads, Body 2.9x1.75mm, Pitch 0.95mm, IPC High Density)
footprint LT-S6-6-TSOT-23_M (SOT23, 6-Leads, Body 2.9x1.75mm, Pitch 0.95mm, IPC Low Density)
pins: 1 ITH/RUN (in) "This pin performs two functions. It serves as the error amplifier compensation point as well as the run control input. Nominal voltage range for this pin is 0.7V to 1.9V. Forcing this pin below 0.35V causes the device to be (See Datasheet)", 2 GND (power) "Ground Pin.", 3 VFB (in) "Receives the feedback voltage from an external resistive divider across the output.", 4 SENSE- (in) "The Negative Input to the Current Comparator.", 5 VIN (power) "Supply Pin. Must be closely decoupled to GND Pin 2.", 6 NGATE (out) "Gate Drive for the External N-Channel MOSFET. This pin swings from 0V to VIN."

## LTC1872ES6#TRPBF
designator U?
Constant Frequency Current Mode Step-Up DC/DC Controller, 6-pin SOT23 (S6-6), -40 to 85 degC, Pb-Free, Tape and Reel; Manufacturer: Linear Technology; PartNumber: LTC1872ES6#TRPBF; Number of Outputs: 1; PackageReference: S6-6; PackageDescription: 6-Pin Plastic TSOT-23, Body 2.9 x 1.63 mm, Pitch 0.95 mm; Supplier 1: Digi-Key; Supplier Part Number 1: LTC1872ES6#TRPBF-ND; RoHS: TRUE; Code_JEDEC: MO-193
footprint LT-S6-6-TSOT-23_N (SOT23, 6-Leads, Body 2.9x1.75mm, Pitch 0.95mm, IPC Medium Density)
footprint LT-S6-6-TSOT-23_L (SOT23, 6-Leads, Body 2.9x1.75mm, Pitch 0.95mm, IPC High Density)
footprint LT-S6-6-TSOT-23_M (SOT23, 6-Leads, Body 2.9x1.75mm, Pitch 0.95mm, IPC Low Density)
pins: 1 ITH/RUN (in) "This pin performs two functions. It serves as the error amplifier compensation point as well as the run control input. Nominal voltage range for this pin is 0.7V to 1.9V. Forcing this pin below 0.35V causes the device to be (See Datasheet)", 2 GND (power) "Ground Pin.", 3 VFB (in) "Receives the feedback voltage from an external resistive divider across the output.", 4 SENSE- (in) "The Negative Input to the Current Comparator.", 5 VIN (power) "Supply Pin. Must be closely decoupled to GND Pin 2.", 6 NGATE (out) "Gate Drive for the External N-Channel MOSFET. This pin swings from 0V to VIN."

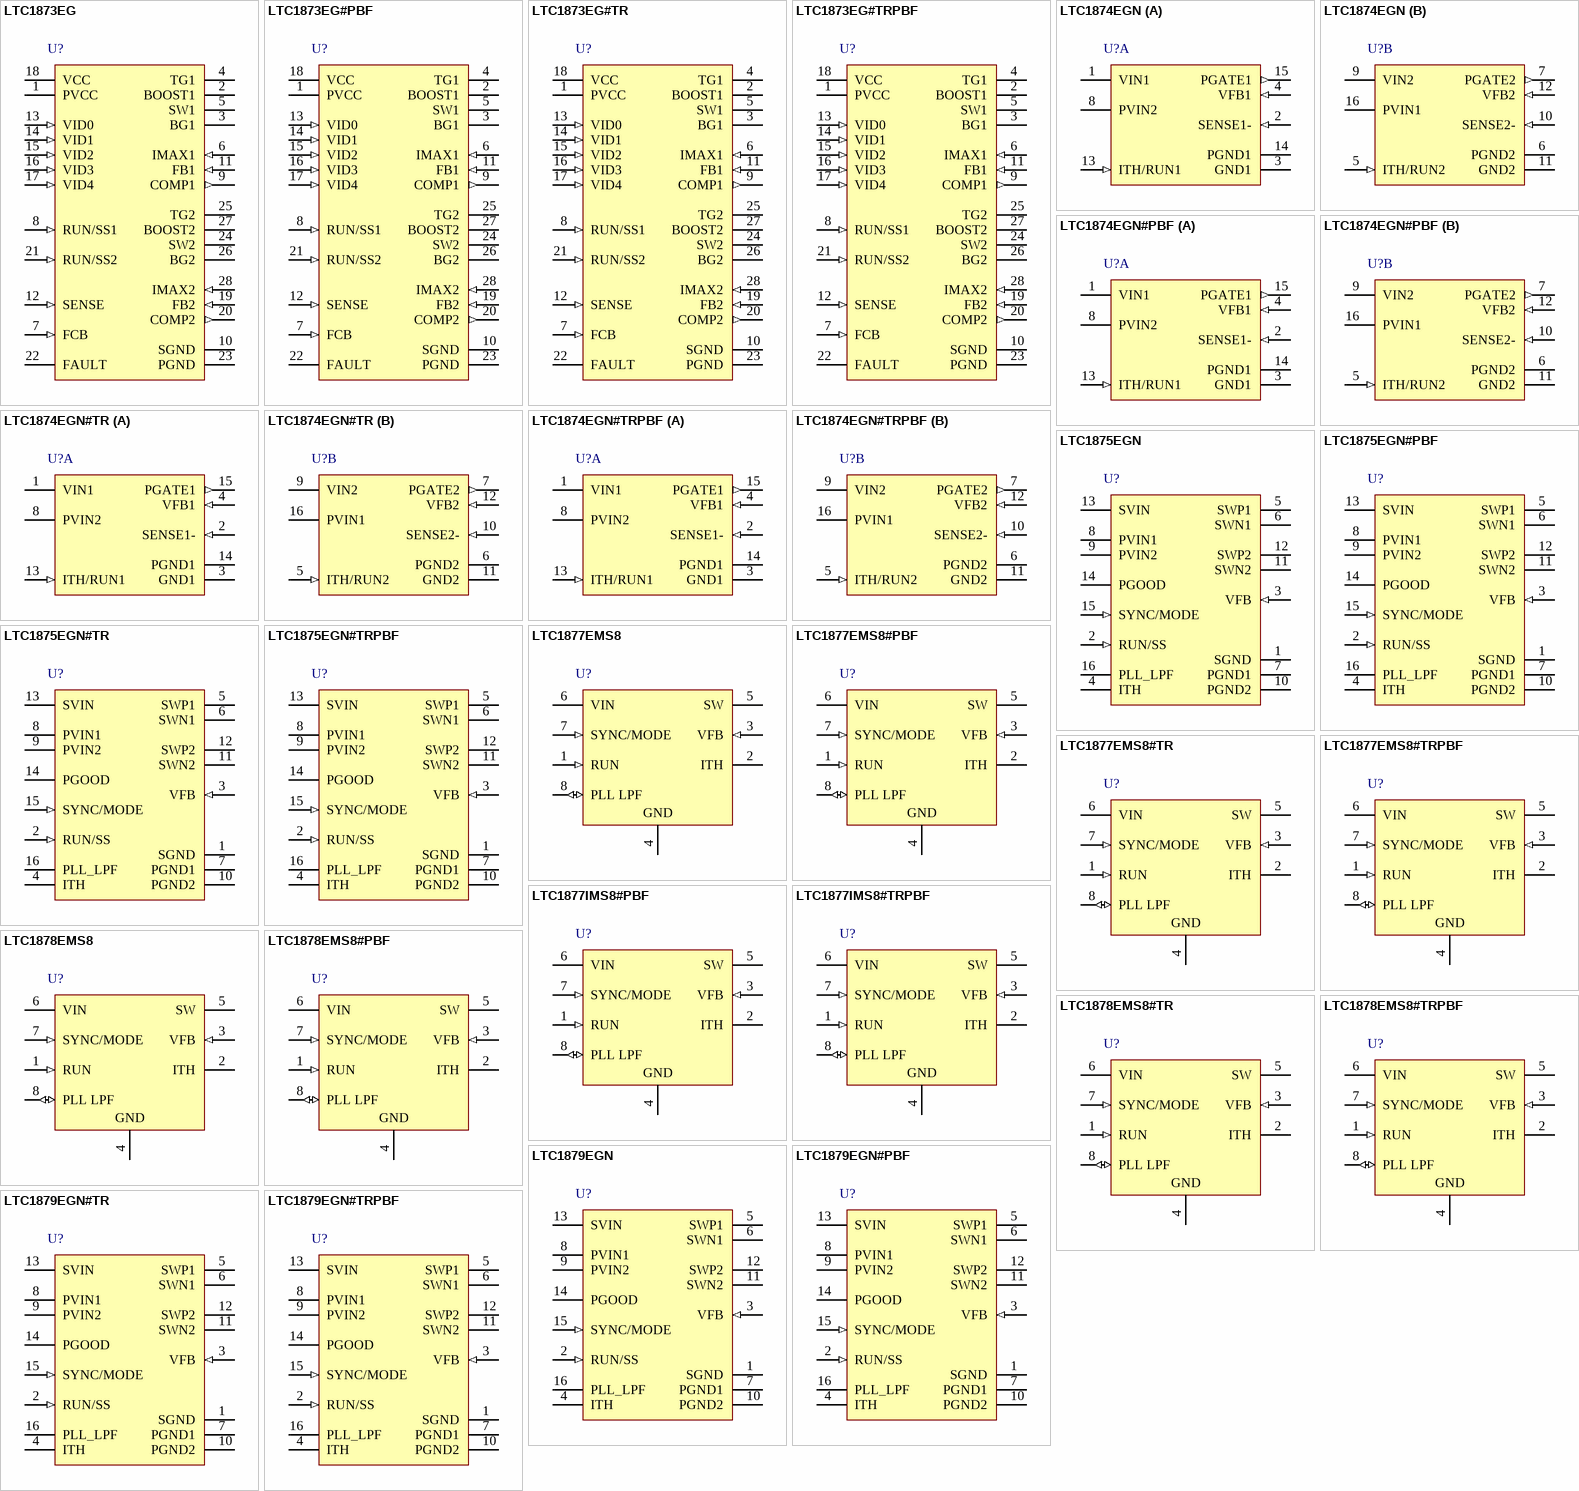
[diagram p12: symbols LTC1873EG to LTC1879EGN#TRPBF]